# EAGLE library part MC13192 (library mc13192)
MC13192 2.4 GHz Low Power Transceiver for IEEE 802.15.4 Standard.
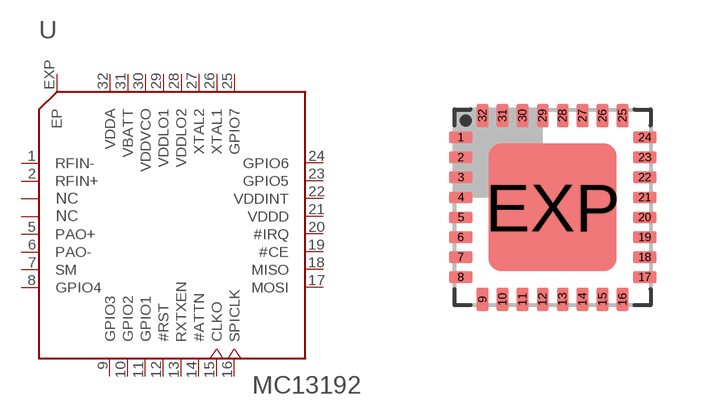
[diagram p0: symbol with the pads of QFN32; footprint QFN32]

Designator prefix -

## MC13192NEW  [QFN32]
1  RFIN-  in
2  RFIN+  in
3  NC1
4  NC2
5  PAO+  out
6  PAO-  out
7  SM
8  GPIO4
9  GPIO3
10  GPIO2
11  GPIO1
12  #RST  in
13  RXTXEN  in
14  #ATTN  in
15  CLKO  out
16  SPICLK  in
17  MOSI  in
18  MISO  out
19  #CE  in
20  #IRQ  out
21  VDDD  sup
22  VDDINT  pwr
23  GPIO5
24  GPIO6
25  GPIO7
26  XTAL1  in
27  XTAL2
28  VDDLO2  pwr
29  VDDLO1  pwr
30  VDDVCO  sup
31  VBATT  pwr
32  VDDA  sup
EXP  EP  pwr

## Footprint QFN32 (pad centres in mm)
QFN 32 5 x 5 mm Source: http://datasheets.maxim-ic.com/en/ds/MAX7042.pdf
smd 0.6 x 0.3: 1 -2.3,1.75; 2 -2.3,1.25; 3 -2.3,0.75; 4 -2.3,0.25; 5 -2.3,-0.25; 6 -2.3,-0.75; 7 -2.3,-1.25; 8 -2.3,-1.75; 17 2.3,-1.75; 18 2.3,-1.25; 19 2.3,-0.75; 20 2.3,-0.25; 21 2.3,0.25; 22 2.3,0.75; 23 2.3,1.25; 24 2.3,1.75
smd 0.3 x 0.6: 9 -1.75,-2.3; 10 -1.25,-2.3; 11 -0.75,-2.3; 12 -0.25,-2.3; 13 0.25,-2.3; 14 0.75,-2.3; 15 1.25,-2.3; 16 1.75,-2.3; 25 1.75,2.3; 26 1.25,2.3; 27 0.75,2.3; 28 0.25,2.3; 29 -0.25,2.3; 30 -0.75,2.3; 31 -1.25,2.3; 32 -1.75,2.3
smd 3.2 x 3.2: EXP 0,0